# Altium footprint library MT_Device.PcbLib: 67 footprints (part 3 of 5)
Each footprint in its own frame and in the unit in brackets; x right, y up, seen from the top. Pads: shape width x height; smd on the part's side, far side on the other; paste and mask are expansions set on the pad; w line width, h text height; cw(c..) or ccw(c..) is an arc to the next point about the centre after c.
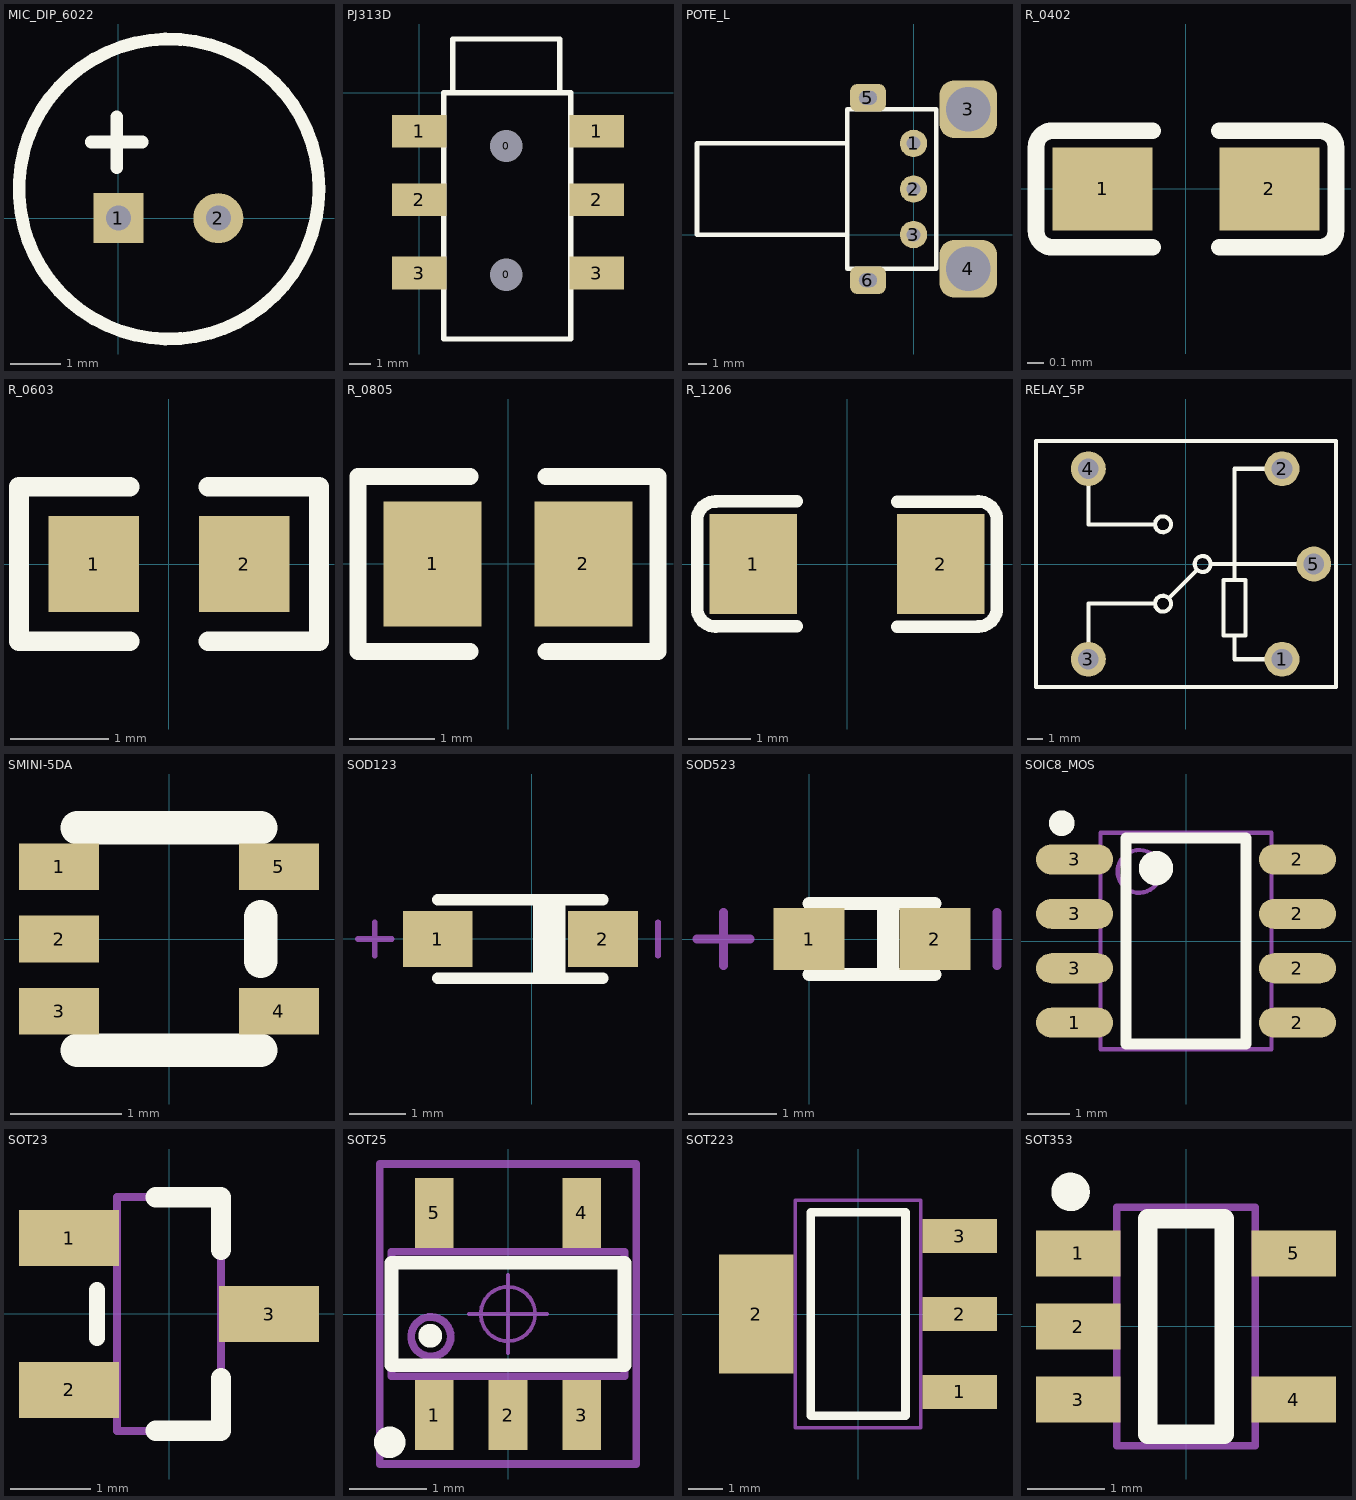
[diagram p2: the footprints below, top view; thin cyan lines are the x and y axes]

## MIC_DIP_6022 [mm]
pads (2):
  rect 1x1 hole 0.5: 1(0,0)
  round 1 hole 0.5: 2(2,0)
Top Overlay:
  circle w0.254: c1.013,0.584 r3
  lines w0.254: -0.54,1.524 0.476,1.524 ; -0.032,1.016 -0.032,2.032

## PJ313D [mm]
pads (8):
  round 0.65 hole 1.5: 0(4.064,-8.5) 0(4.064,-2.5)
  rect 2.54x1.524 smd: 1(0,-1.8) 1(8.286,-1.8) 2(0,-5) 2(8.286,-5) 3(0,-8.42) 3(8.286,-8.42)
Top Overlay:
  lines w0.254: 1.564,0.04 1.564,2.5 4.064,2.5 6.564,2.5 6.564,0.04 ; 1.143,-11.5 4.064,-11.5 7.064,-11.5 7.064,0 4.064,0 1.143,0 1.143,-11.5
3D body "JackPJ313D.STEP": height 5, standoff -1, extent -0.44,-11.5 8.56,2.5

## POTE_L [mil]
pads (7):
  round 60 hole 30: 1(0,200) 2(0,100) 3(0,0)
  rrect50% 125.98x125.98 hole 98.43: 3(120,275) 4(120,-75)
  rrect50% 78.74x60 hole 30 slot 39.37 at 0 deg: 5(-100,300) 6(-100,-100)
Top Overlay:
  lines w10: -145,0 -145,-75 50,-75 50,275 -145,275 -145,200 ; -145,0 -145,200 ; -145,0 -475,0 -475,100 -475,200 -145,200

## R_0402 [mm]
pads (2):
  rect 0.6x0.5 smd: 1(-0.5,0) 2(0.5,0)
Top Overlay:
  lines w0.1: -0.2,-0.35 -0.8,-0.35 cw(c-0.8,-0.25) -0.9,-0.25 -0.9,0.25 cw(c-0.8,0.25) -0.8,0.35 -0.2,0.35 ; 0.2,-0.35 0.8,-0.35 ccw(c0.8,-0.25) 0.9,-0.25 0.9,0.25 ccw(c0.8,0.25) 0.8,0.35 0.2,0.35
3D body "Resistor 0402.step": height 0.35, standoff 0, extent -0.75,-0.25 0.75,0.25

## R_0603 [mm]
pads (2):
  rect 0.93x0.98 smd: 1(-0.77,0) 2(0.77,0)
Top Overlay:
  lines w0.2: -0.4,-0.79 -1.535,-0.79 -1.535,0.79 -0.4,0.79 ; 0.4,-0.79 1.535,-0.79 1.535,0.79 0.4,0.79
3D body "User Library-RES_1609-0603.STEP": height 0.56, standoff 0, extent -0.85,-0.4 0.85,0.4

## R_0805 [mm]
pads (2):
  rect 1.16x1.47 smd: 1(-0.89,0) 2(0.89,0)
Top Overlay:
  lines w0.2: -0.45,-1.035 -1.77,-1.035 -1.77,1.035 -0.45,1.035 ; 0.45,-1.035 1.77,-1.035 1.77,1.035 0.45,1.035
3D body "User Library-R_0805.STEP": height 0.49, standoff -0.01, extent -0.997,-0.625 1.003,0.625

## R_1206 [mm]
pads (2):
  rect 1.4x1.6 smd: 1(-1.5,0) 2(1.5,0)
Top Overlay:
  lines w0.2: -0.8,-1 -2.1,-1 cw(c-2.1,-0.7) -2.4,-0.7 -2.4,0.7 cw(c-2.1,0.7) -2.1,1 -0.8,1 ; 0.8,-1 2.1,-1 ccw(c2.1,-0.7) 2.4,-0.7 2.4,0.7 ccw(c2.1,0.7) 2.1,1 0.8,1
3D body "Resistor 1206.step": height 0.6, standoff 0, extent -1.895,-0.8 1.905,0.8

## RELAY_5P [mm]
pads (5):
  round 2.2 hole 1.3: 1(6.05,-6) 2(6.05,6) 3(-6.15,-6) 4(-6.15,6) 5(8.05,0)
Top Overlay:
  circle w0.254: c1.05,0 r0.5
  circle w0.254: c-1.45,-2.5 r0.5
  circle w0.254: c-1.45,2.5 r0.5
  lines w0.254: -6.15,-6 -6.15,-2.5 ; -6.15,6 -6.15,2.5 -1.95,2.5 ; -1.95,-2.5 -6.15,-2.5 ; -1.05,-2.1 0.65,-0.4 ; 1.55,0 8.05,0 ; 3.05,-4.5 3.05,-6 6.05,-6 ; 3.05,-1 3.05,6 6.05,6 ; -6.15,-2.5 -6.15,-2.5 ; -9.45,-7.75 9.45,-7.75 9.45,0 9.45,7.75 -9.45,7.75 -9.45,-7.75 ; 2.35,-4.5 2.35,-1 3.75,-1 3.75,-4.5 2.35,-4.5
3D body "RELAY_SRD-05VDC.STEP": height 15.9, standoff -2.8, extent -9.6,-7.8 9.6,7.8

## SMINI-5DA [mm]
pads (5):
  rect 0.72x0.42 smd: 1(-0.99,0.65) 2(-0.99,0) 3(-0.99,-0.65) 4(0.99,-0.65) 5(0.99,0.65)
Top Overlay:
  lines w0.3: -0.825,-1 0,-1 0.825,-1 ; -0.825,1 0,1 0.825,1 ; 0.825,-0.2 0.825,0.2
3D body: height 0.8, standoff 0, extent -0.825,-1 0.825,1

## SOD123 [mm]
pads (2):
  rect 1.25x1 smd: 1(-1.675,0) 2(1.275,0)
Top Overlay:
  lines w0.2: -1.675,-0.7 1.275,-0.7 ; -1.675,0.7 1.275,0.7 ; 0.13,-0.7 0.13,0.7 ; 0.32,-0.7 0.32,0.7 ; 0.51,-0.7 0.51,0.7
Mechanical 15:
  lines w0.1: -3.1,0 -2.5,0 ; -2.8,-0.3 -2.8,0.3 ; 2.26,-0.3 2.26,0.3
3D body "SOD123.STEP": height 1.35, standoff 0, extent -2.05,-0.775 1.65,0.775

## SOD523 [mm]
pads (2):
  rect 0.8x0.7 smd: 1(0,0) 2(1.42,0)
Top Overlay:
  lines w0.15: 0,-0.4 1.42,-0.4 ; 0,0.4 1.42,0.4 ; 0.84,-0.4 0.84,0.4 ; 0.94,-0.4 0.94,0.4
Mechanical 15:
  lines w0.1: -1.265,0 -0.665,0 ; -0.965,-0.3 -0.965,0.3 ; 2.12,-0.3 2.12,0.3

## SOIC8_MOS [mm]
pads (8):
  oval 1.8x0.7 smd: 1(-2.6,-1.905) 2(2.6,-1.905) 2(2.6,-0.635) 2(2.6,0.635) 2(2.6,1.905) 3(-2.6,-0.635) 3(-2.6,0.635) 3(-2.6,1.905)
Top Overlay:
  circle w0.4: c-0.7,1.7 r0.2
  circle w0.3: c-2.9,2.75 r0.15
  lines w0.254: -1.4,-2.4 1.4,-2.4 1.4,2.4 -1.4,2.4 -1.4,-2.4
Mechanical 13:
  circle w0.1: c-1.095,1.625 r0.5
  lines w0.1: -1.995,-2.525 1.995,-2.525 1.995,2.525 -1.995,2.525 -1.995,-2.525
3D body "SOIC8-150-50.STEP": height 1.91, standoff 0, extent -3,-2.45 3,2.45

## SOT23 [mm]
pads (3):
  rect 1.25x0.7 smd: 1(-1.25,0.95) 2(-1.25,-0.95) 3(1.25,0)
Top Overlay:
  lines w0.2: -0.9,-0.3 -0.9,0.3
  lines w0.254: -0.165,-1.46 0.65,-1.46 ; -0.165,1.46 0.65,1.46 0.65,0.8 ; 0.65,-1.46 0.65,-0.8 ; 0.65,-1.46 0.65,-0.8 ; 0.65,-1.46 0.65,-0.8
Mechanical 13:
  lines w0.1: -0.65,-1.46 -0.65,1.46 ; -0.65,-1.46 0.65,-1.46 ; -0.65,-1.46 -0.65,1.46 ; -0.65,-1.46 0.65,-1.46 ; -0.65,-1.46 0.65,-1.46 ; -0.65,-1.46 -0.65,1.46 ; -0.65,1.46 0.65,1.46 ; -0.65,1.46 0.65,1.46 ; -0.65,1.46 0.65,1.46 ; 0.65,-1.46 0.65,1.46 ; 0.65,-1.46 0.65,1.46 ; 0.65,-1.46 0.65,1.46
3D body "SOT-23.step": height 1.3, standoff 0, extent -1.5,-1.5 1.5,1.5

## SOT25 [mm]
pads (5):
  rect 0.5x0.9 smd: 1(-0.95,-1.3) 2(0,-1.3) 3(0.95,-1.3) 4(0.95,1.3) 5(-0.95,1.3)
Top Overlay:
  circle w0.254: c-1.524,-1.651 r0.076
  circle w0.254: c-1.001,-0.279 r0.025
  lines w0.178: -1.5,-0.66 -1.5,0.66 1.5,0.66 1.5,-0.66 -1.5,-0.66
Mechanical 13:
  circle w0.1: c-0.992,-0.292 r0.254
  lines w0.1: -1.5,-0.8 1.5,-0.8 1.5,0.8 -1.5,0.8 -1.5,-0.8
Mechanical 15:
  circle w0.05: c0,0 r0.35
  lines w0.05: -0.5,0 0.5,0 ; 0,-0.5 0,0.5
  lines w0.1: -1.651,-1.93 1.651,-1.93 1.651,1.93 -1.651,1.93 -1.651,-1.93
3D body "SOT23-5.STEP": height 1.15, standoff -0.03, extent -1.5,-1.403 1.5,1.403

## SOT223 [mm]
pads (4):
  rect 2.2x1 smd: 1(3,-2.3) 2(3,0) 3(3,2.3)
  rect 2.2x3.5 smd: 2(-3,0)
Top Overlay:
  lines w0.254: -1.4,-3 1.4,-3 1.4,3 -1.4,3 -1.4,-3
Mechanical 13:
  lines w0.1: -1.85,-3.35 -1.85,3.35 1.85,3.35 1.85,-3.35 -1.85,-3.35
3D body "TO-223.STEP": height 1.64, standoff -0.04, extent -3.49,-3.242 3.49,3.243

## SOT353 [mm]
pads (5):
  rect 1.1x0.6 smd: 1(-1.4,0.95) 2(-1.4,0) 3(-1.4,-0.95) 4(1.4,-0.95) 5(1.4,0.95)
Top Overlay:
  circle w0.25: c-1.5,1.75 r0.125
  lines w0.254: -0.5,-1.4 0.5,-1.4 0.5,1.4 -0.5,1.4 -0.5,-1.4
Mechanical 13:
  lines w0.1: -0.9,-1.55 -0.9,1.55 0.9,1.55 0.9,-1.55 -0.9,-1.55
3D body "SOT353.step": height 1, standoff -0.05, extent -1.1,-1.1 1.1,1.1